# Altium footprint library PcbLib1.PcbLib: 18 footprints (part 1 of 2)
Each footprint in its own frame and in the unit in brackets; x right, y up, seen from the top. Pads: shape width x height; smd on the part's side, far side on the other; paste and mask are expansions set on the pad; w line width, h text height; cw(c..) or ccw(c..) is an arc to the next point about the centre after c.
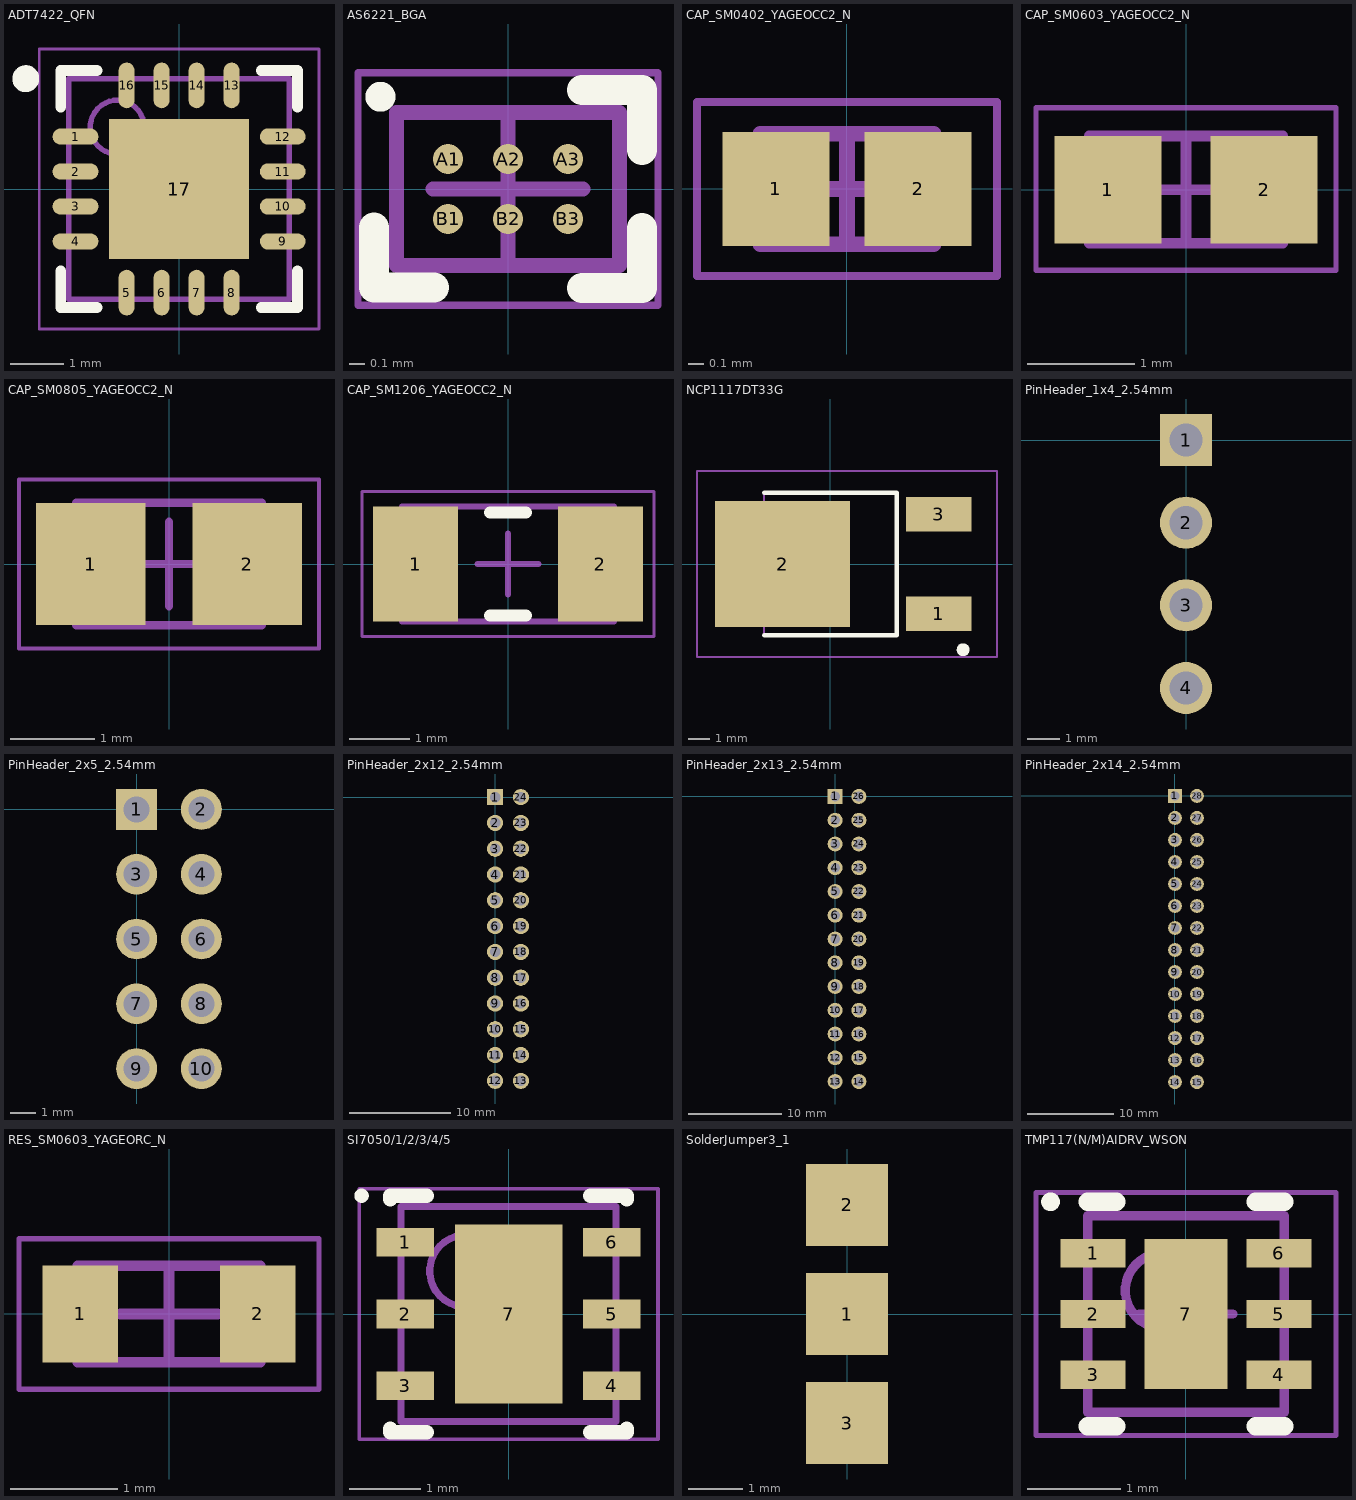
[diagram p0: the footprints below, top view; thin cyan lines are the x and y axes]

## ADT7422_QFN [mm] "QFN, 16-Leads, Body 4,00x4,00mm, Pitch 0,65mm, Thermal Pad 2,60x2,60mm, IPC Medium Density"
height 0.8
pads (17):
  oval 0.85x0.3 smd: 1(-1.925,0.975) 2(-1.925,0.325) 3(-1.925,-0.325) 4(-1.925,-0.975) 9(1.925,-0.975) 10(1.925,-0.325) 11(1.925,0.325) 12(1.925,0.975)
  oval 0.3x0.85 smd: 5(-0.975,-1.925) 6(-0.325,-1.925) 7(0.325,-1.925) 8(0.975,-1.925) 13(0.975,1.925) 14(0.325,1.925) 15(-0.325,1.925) 16(-0.975,1.925)
  rect 2.6x2.6 smd: 17(0,0)
Top Overlay:
  circle w0.25: c-2.85,2.05 r0.125
  lines w0.2: -2.2,-1.525 -2.2,-2.2 -1.525,-2.2 ; -2.2,1.525 -2.2,2.2 -1.525,2.2 ; 1.525,-2.2 2.2,-2.2 2.2,-1.525 ; 1.525,2.2 2.2,2.2 2.2,1.525
Top Courtyard:
  lines w0.05: -2.6,-2.6 -2.6,2.6 2.6,2.6 2.6,-2.6 -2.6,-2.6
  lines w0.1: -0.5,0 0.5,0 ; 0,-0.5 0,0.5
Mechanical 13:
  circle w0.1: c-1.15,1.15 r0.5
  lines w0.1: -2.05,-2.05 -2.05,2.05 2.05,2.05 2.05,-2.05 -2.05,-2.05
3D body: height 0.8, standoff 0.01, extent -2.05,-2.05 2.05,2.05

## AS6221_BGA [mm] "BGA, 6-Leads, Body 1,02x1,50mmx0,53mm, Pitch 0,40mm"
height 0.53
pads (6):
  round 0.2 smd: A1(-0.4,0.2) A2(0,0.2) A3(0.4,0.2) B1(-0.4,-0.2) B2(0,-0.2) B3(0.4,-0.2)
Top Overlay:
  circle w0.1: c-0.85,0.615 r0.05
  lines w0.2: -0.893,-0.256 -0.893,-0.656 -0.493,-0.656 ; 0.494,-0.66 0.894,-0.66 0.894,-0.26 ; 0.494,0.661 0.894,0.661 0.894,0.261
Top Courtyard:
  lines w0.05: -1,-0.775 -1,0.775 1,0.775 1,-0.775 -1,-0.775
  lines w0.1: -0.5,0 0.5,0 ; 0,-0.5 0,0.5
Mechanical 13:
  lines w0.1: -0.745,-0.51 -0.745,0.51 0.745,0.51 0.745,-0.51 -0.745,-0.51
3D body: height 0.55, standoff 0.18, extent -0.745,-0.51 0.745,0.51

## CAP_SM0402_YAGEOCC2_N [mm] "Capacitor, Yageo CC Class2, SM0402, IPC Medium Density"
height 0.9
pads (2):
  rect 0.68x0.72 smd: 1(-0.45,0) 2(0.45,0)
Mechanical 13:
  lines w0.1: -0.55,-0.35 -0.55,0.35 0.55,0.35 0.55,-0.35 -0.55,-0.35
Mechanical 15:
  lines w0.05: -0.95,-0.55 -0.95,0.55 0.95,0.55 0.95,-0.55 -0.95,-0.55
  lines w0.1: -0.35,0 0.35,0 ; 0,-0.35 0,0.35
3D body: height 0.6, standoff 0, extent -0.3,-0.35 0.3,0.35
3D body: height 0.6, standoff 0, extent -0.55,-0.35 -0.3,0.35
3D body: height 0.6, standoff 0, extent 0.3,-0.35 0.55,0.35

## CAP_SM0603_YAGEOCC2_N [mm] "Capacitor, Yageo CC Class2, SM0603, IPC Medium Density"
height 0.9
pads (2):
  rect 1x1 smd: 1(-0.727,0) 2(0.727,0)
Mechanical 13:
  lines w0.1: -0.9,-0.5 0.9,-0.5 0.9,0.5 -0.9,0.5 -0.9,-0.5
Mechanical 15:
  lines w0.05: -1.397,-0.75 1.397,-0.75 1.397,0.762 -1.397,0.762 -1.397,-0.75
  lines w0.1: -0.5,0 0.5,0 ; 0,-0.5 0,0.5
3D body: height 0.9, standoff 0, extent 0.5,-0.5 0.9,0.5
3D body: height 0.9, standoff 0, extent -0.9,-0.5 -0.5,0.5
3D body: height 0.9, standoff 0, extent -0.5,-0.5 0.5,0.5

## CAP_SM0805_YAGEOCC2_N [mm] "Capacitor, Yageo CC Class2, SM0805, IPC Medium Density"
height 1.45
pads (2):
  rect 1.3x1.45 smd: 1(-0.927,0) 2(0.927,0)
Mechanical 13:
  lines w0.1: -1.1,-0.725 -1.1,0.725 1.1,0.725 1.1,-0.725 -1.1,-0.725
Mechanical 15:
  lines w0.05: -1.778,-1 -1.778,1 1.778,1 1.778,-1 -1.778,-1
  lines w0.1: -0.5,0 0.5,0 ; 0,-0.5 0,0.5
3D body: height 1.45, standoff 0, extent -0.6,-0.725 0.6,0.725
3D body: height 1.45, standoff 0, extent -1.1,-0.725 -0.6,0.725
3D body: height 1.45, standoff 0, extent 0.6,-0.725 1.1,0.725

## CAP_SM1206_YAGEOCC2_N [mm] "Capacitor, Yageo CC Class2, SM1206, IPC Medium Density"
height 1.8
pads (2):
  rect 1.4x1.9 smd: 1(-1.527,0) 2(1.527,0)
Top Overlay:
  lines w0.2: -0.3,-0.85 0.3,-0.85 ; -0.3,0.85 0.3,0.85
Mechanical 13:
  lines w0.1: -1.75,-0.95 -1.75,0.95 1.75,0.95 1.75,-0.95 -1.75,-0.95
Mechanical 15:
  lines w0.05: -2.413,-1.2 -2.413,1.2 2.413,1.2 2.413,-1.2 -2.413,-1.2
  lines w0.1: -0.5,0 0.5,0 ; 0,-0.5 0,0.5
3D body: height 1.8, standoff 0, extent -1.25,-0.95 1.25,0.95
3D body: height 1.8, standoff 0, extent -1.75,-0.95 -1.25,0.95
3D body: height 1.8, standoff 0, extent 1.25,-0.95 1.75,0.95

## NCP1117DT33G [mm]
pads (3):
  rect 3x1.6 smd: 1(4.982,-2.285) 3(4.982,2.285)
  rect 6.2x5.8 smd: 2(-2.198,0)
Top Overlay:
  lines w0.2: -3.047,-3.27 3.048,-3.27 3.048,3.27 -3.047,3.27 ; 6.096,-3.741 ccw(c6.096,-3.937) 6.146,-3.747 ; 6.084,-3.936 cw(c6.134,-3.936) 6.184,-3.936 cw(c6.134,-3.936) 6.084,-3.936
Mechanical 15:
  lines w0.1: -3.047,-3.27 -3.047,3.27 3.048,3.27 3.048,-3.27 -3.047,-3.27
Mechanical 20:
  lines w0.1: -6.128,-4.27 -6.128,4.27 7.652,4.27 7.652,-4.27 -6.128,-4.27
3D body "NCP1117DT33G.stp": height 2.69, standoff -0.02, extent -4.678,-3.335 5.74,3.395

## PinHeader_1x4_2.54mm [mm]
pads (4):
  rect 1.6x1.6 hole 1.02: 1(0,0)
  round 1.6 hole 1.02: 2(0,-2.54) 3(0,-5.08) 4(0,-7.62)

## PinHeader_2x5_2.54mm [mm]
pads (10):
  rect 1.6x1.6 hole 1.02: 1(0,0)
  round 1.6 hole 1.02: 2(2.54,0) 3(0,-2.54) 4(2.54,-2.54) 5(0,-5.08) 6(2.54,-5.08) 7(0,-7.62) 8(2.54,-7.62) 9(0,-10.16) 10(2.54,-10.16)

## PinHeader_2x12_2.54mm [mm]
pads (24):
  rect 1.6x1.6 hole 1.02: 1(0,0)
  round 1.6 hole 1.02: 2(0,-2.54) 3(0,-5.08) 4(0,-7.62) 5(0,-10.16) 6(0,-12.7) 7(0,-15.24) 8(0,-17.78) 9(0,-20.32) 10(0,-22.86) 11(0,-25.4) 12(0,-27.94) 13(2.54,-27.94) 14(2.54,-25.4) 15(2.54,-22.86) 16(2.54,-20.32) 17(2.54,-17.78) 18(2.54,-15.24) 19(2.54,-12.7) 20(2.54,-10.16) 21(2.54,-7.62) 22(2.54,-5.08) 23(2.54,-2.54) 24(2.54,0)

## PinHeader_2x13_2.54mm [mm]
pads (26):
  rect 1.6x1.6 hole 1.02: 1(0,0)
  round 1.6 hole 1.02: 2(0,-2.54) 3(0,-5.08) 4(0,-7.62) 5(0,-10.16) 6(0,-12.7) 7(0,-15.24) 8(0,-17.78) 9(0,-20.32) 10(0,-22.86) 11(0,-25.4) 12(0,-27.94) 13(0,-30.48) 14(2.54,-30.48) 15(2.54,-27.94) 16(2.54,-25.4) 17(2.54,-22.86) 18(2.54,-20.32) 19(2.54,-17.78) 20(2.54,-15.24) 21(2.54,-12.7) 22(2.54,-10.16) 23(2.54,-7.62) 24(2.54,-5.08) 25(2.54,-2.54) 26(2.54,0)

## PinHeader_2x14_2.54mm [mm]
pads (28):
  rect 1.6x1.6 hole 1.02: 1(0,0)
  round 1.6 hole 1.02: 2(0,-2.54) 3(0,-5.08) 4(0,-7.62) 5(0,-10.16) 6(0,-12.7) 7(0,-15.24) 8(0,-17.78) 9(0,-20.32) 10(0,-22.86) 11(0,-25.4) 12(0,-27.94) 13(0,-30.48) 14(0,-33.02) 15(2.54,-33.02) 16(2.54,-30.48) 17(2.54,-27.94) 18(2.54,-25.4) 19(2.54,-22.86) 20(2.54,-20.32) 21(2.54,-17.78) 22(2.54,-15.24) 23(2.54,-12.7) 24(2.54,-10.16) 25(2.54,-7.62) 26(2.54,-5.08) 27(2.54,-2.54) 28(2.54,0)

## RES_SM0603_YAGEORC_N [mm] "Resistor, Yageo RC_L, SM0603, IPC Medium Density"
height 0.55
pads (2):
  rect 0.7x0.9 smd: 1(-0.827,0) 2(0.827,0)
Mechanical 13:
  lines w0.1: -0.85,-0.45 -0.85,0.45 0.85,0.45 0.85,-0.45 -0.85,-0.45
Mechanical 15:
  lines w0.05: -1.397,-0.7 -1.397,0.7 1.397,0.7 1.397,-0.7 -1.397,-0.7
  lines w0.1: -0.45,0 0.45,0 ; 0,-0.45 0,0.45
3D body: height 0.55, standoff 0, extent -0.6,-0.45 0.6,0.45
3D body: height 0.55, standoff 0, extent -0.85,-0.45 -0.6,0.45
3D body: height 0.55, standoff 0, extent 0.6,-0.45 0.85,0.45

## SI7050/1/2/3/4/5 [mm] "SON, 6-Leads, Body 3,00x3,00mm, Pitch 1,00mm, Thermal Pad 2,50x1,50mm, IPC Medium Density"
height 0.8
pads (7):
  rect 0.8x0.4 smd: 1(-1.44,1) 2(-1.44,0) 3(-1.44,-1) 4(1.44,-1) 5(1.44,0) 6(1.44,1)
  rect 1.5x2.5 smd: 7(0,0)
Top Overlay:
  circle w0.1: c-2.05,1.65 r0.05
  lines w0.2: -1.65,-1.6 -1.65,-1.65 -1.14,-1.65 ; -1.65,1.6 -1.65,1.65 -1.14,1.65 ; 1.14,-1.65 1.65,-1.65 1.65,-1.6 ; 1.14,1.65 1.65,1.65 1.65,1.6
Top Courtyard:
  lines w0.05: -2.085,-1.75 2.085,-1.75 2.085,1.75 -2.085,1.75 -2.085,-1.75
  lines w0.1: -0.5,0 0.5,0 ; 0,-0.5 0,0.5
Mechanical 13:
  circle w0.1: c-0.6,0.6 r0.5
  lines w0.1: -1.5,-1.5 1.5,-1.5 1.5,1.5 -1.5,1.5 -1.5,-1.5
3D body: height 0.8, standoff 0, extent -1.5,-1.5 1.5,1.5

## SolderJumper3_1 [mm]
pads (3):
  rect 1.5x1.5 smd: 1(0,0) 2(0,2) 3(0,-2)

## TMP117(N/M)AIDRV_WSON [mm] "SON127P600-8N"
height 0.8
pads (7):
  rect 0.7x0.3 smd: 1(-0.995,0.65) 2(-0.995,0) 3(-0.995,-0.65) 4(0.995,-0.65) 5(0.995,0) 6(0.995,0.65)
  rect 0.89x1.6 smd: 7(0,0)
Top Overlay:
  circle w0.1: c-1.45,1.2 r0.05
  lines w0.2: -1.05,-1.2 -0.745,-1.2 ; -1.05,1.2 -0.745,1.2 ; 0.745,-1.2 1.05,-1.2 ; 0.745,1.2 1.05,1.2
Top Courtyard:
  lines w0.05: -1.605,-1.3 1.605,-1.3 1.605,1.3 -1.605,1.3 -1.605,-1.3
  lines w0.1: -0.5,0 0.5,0 ; 0,-0.5 0,0.5
Mechanical 13:
  circle w0.1: c-0.25,0.25 r0.4
  lines w0.1: -1.05,-1.05 1.05,-1.05 1.05,1.05 -1.05,1.05 -1.05,-1.05
3D body: height 0.8, standoff 0, extent -1.05,-1.05 1.05,1.05